# Altium schematic symbol library MAX25232.SchLib: 1 symbol
Pins are listed as number, name and electrical type; pins without a type are passive.

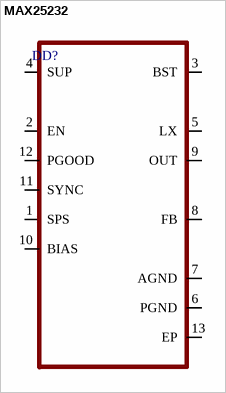
[diagram p0: symbol MAX25232]

## MAX25232
designator DD?
pins: 1 SPS, 2 EN, 3 BST, 4 SUP, 5 LX, 6 PGND, 7 AGND, 8 FB, 9 OUT, 10 BIAS, 11 SYNC, 12 PGOOD, 13 EP